# Altium schematic symbol library Stepper.SchLib: 1 symbol
Pins are listed as number, name and electrical type; pins without a type are passive.

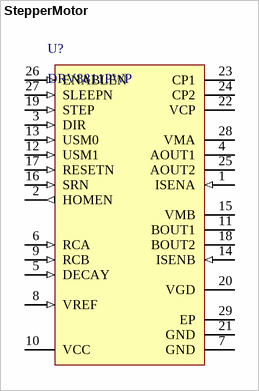
[diagram p0: symbol StepperMotor]

## StepperMotor
designator U?, comment DRV8811PWP
1.9 A Bipolar Stepper Motor Driver with On-Chip 1 / 8 Microstepping Indexer (Step / Dir Ctrl), -40 to 85 degC, 28-pin HTSSOP (PWP), Green (RoHS & no Sb/Br); Thermal Shutdown: TRUE; Peak Output Current(A): 1.9; PackageVersion: 4073225-6/I, 05/2011; ComponentLink2URL: http://www.ti.com/general/docs/lit/getliterature.tsp?genericPartNumber=DRV8811&fileType=pdf; Eco-Plan: Green (RoHS & no Sb/Br); ComponentLink3URL: http://www.ti.com/litv/pdf/mpds373; PackageDescription: 28-Pin Plastic Small Outline, Body 9.70 x 4.40 mm, Pitch 0.65 mm; DatasheetVersion: SLVS865G; Code_JEDEC: MO-153; ComponentLink1URL: http://www.ti.com/; ComponentLink1Description: Manufacturer URL; ComponentLink2Description: Datasheet; Package Reference: PWP0028C; PartNumber: DRV8811PWP; Mounting Technology: Surface Mount; ComponentLink3Description: Package Specification
footprint StepperMotor (SOP, 28-Leads, Body 9.8x4.5mm, Pitch 0.65mm, Thermal Pad 5.18x3.1mm, IPC Low Density)
pins: 1 ISENA (in) "Bridge A ground / Isense", 2 HOMEN (out) "Home position", 3 DIR (in) "Direction input", 4 AOUT1 (power) "Bridge A output 1", 5 DECAY (in) "Decay mode select", 6 RCA (in) "Bridge A blanking and off time adjust", 7 GND (power) "Device ground", 8 VREF (in) "Current set reference input", 9 RCB (in) "Bridge B blanking and off time adjust", 10 VCC (power) "Logic supply voltage", 11 BOUT1 (power) "Bridge B output 1", 12 USM1 (in) "Microstep mode 1", 13 USM0 (in) "Microstep mode 0", 14 ISENB (in) "Bridge B ground / Isense", 15 VMB (power) "Bridge B power supply", 16 SRN (in) "Sync. Rect. enable input", 17 RESETN (in) "Reset input", 18 BOUT2 (power) "Bridge B output 2", 19 STEP (in) "Step input", 20 VGD (power) "Low-side gate drive voltage", 21 GND (power) "Device ground", 22 VCP (power) "High-side gate drive voltage", 23 CP1 "Charge pump flying capacitor", 24 CP2 "Charge pump flying capacitor", 25 AOUT2 (power) "Bridge A output 2", 26 ENABLEN (in) "Enable input", 27 SLEEPN (in) "Sleep mode input", 28 VMA (power) "Bridge A power supply", 29 EP (power) "Exposed Thermal Pad"